# Altium schematic symbol library inductors.SchLib: 24 symbols
Pins are listed as number, name and electrical type; pins without a type are passive.

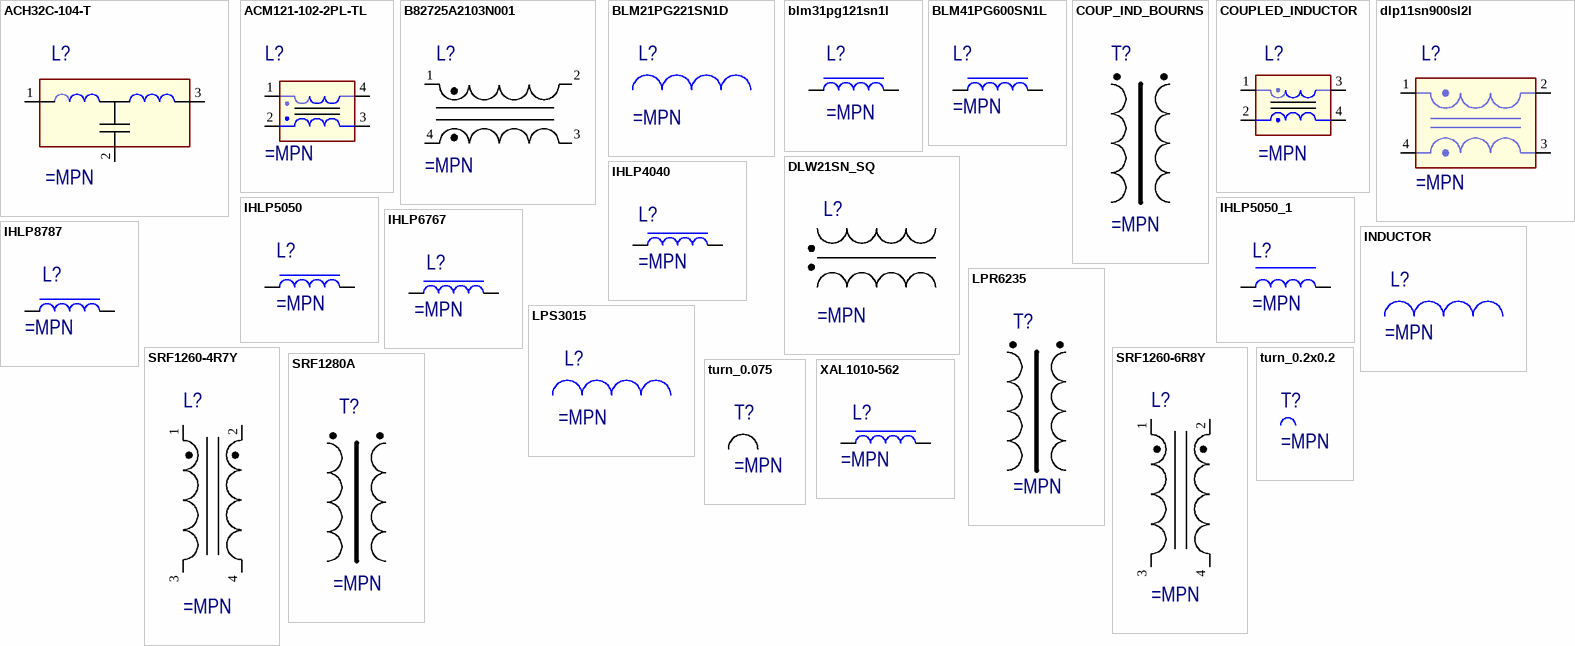
[diagram p0: symbols ACH32C-104-T to XAL1010-562]

## ACH32C-104-T
designator L?
pins: 1, 2, 3

## ACM121-102-2PL-TL
designator L?
pins: 1, 2, 3, 4

## B82725A2103N001
designator L?
pins: 1, 2, 3, 4

## BLM21PG221SN1D
designator L?
pins: 1, 2

## blm31pg121sn1l
designator L?
pins: 1, 2

## BLM41PG600SN1L
designator L?
pins: 1, 2

## COUP_IND_BOURNS
designator T?
pins: 1, 2, 3, 4

## COUPLED_INDUCTOR
designator L?
pins: 1, 2, 3, 4

## dlp11sn900sl2l
designator L?
pins: 1, 2, 3, 4

## DLW21SN_SQ
designator L?
pins: 1, 2, 3, 4

## IHLP4040
designator L?
pins: 1, 2

## IHLP5050
designator L?
pins: 1, 2

## IHLP5050_1
designator L?
pins: 1, 2

## IHLP6767
designator L?
pins: 1, 2

## IHLP8787
designator L?
pins: 1, 2

## INDUCTOR
designator L?
pins: 1, 2

## LPR6235
designator T?
1:50 Coupled Inductors – LPR6235
pins: 1, 2, 3, 4

## LPS3015
designator L?
pins: 1, 2

## SRF1260-4R7Y
designator L?
pins: 1, 2, 3, 4

## SRF1260-6R8Y
designator L?
pins: 1, 2, 3, 4

## SRF1280A
designator T?
SRF1280A Series - Dual-Winding Shielded Power Inductors
pins: 1, 2, 3, 4

## turn_0.2x0.2
designator T?
pins: 1, 2

## turn_0.075
designator T?
pins: 1, 2

## XAL1010-562
designator L?
pins: 1, 2